# EAGLE library part DIAS* (library Zoli2_2015-01-28)
Pyroelectric sensor array
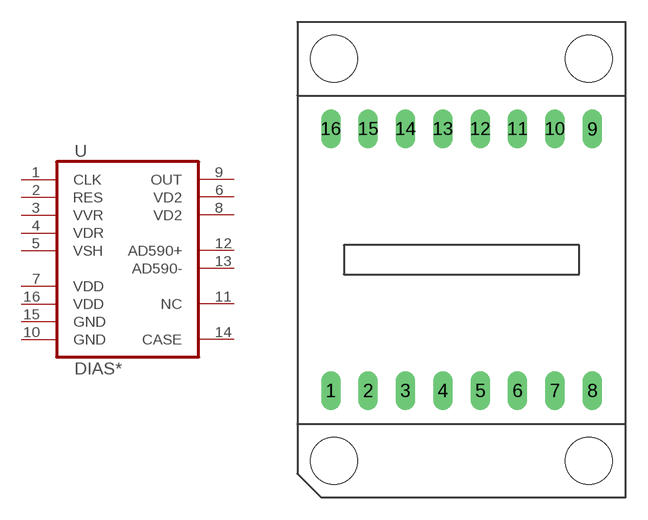
[diagram p21: symbol with the pads of DIAS; footprint DIAS]

Designator prefix U

## DIAS128LT, DIAS256LT  [DIAS]
1  CLK  in
2  RES  in
3  VVR  in
4  VDR  in
5  VSH  in
6  VD2  in
7  VDD  pwr
8  VD2  in
9  OUT  out
10  GND  pwr
11  NC  nc
12  AD590+  in
13  AD590-  in
14  CASE  pas
15  GND  pwr
16  VDD  pwr

## Footprint DIAS (pad centres in mm)
drill 0.813 long: 1 -8.89,-8.89; 2 -6.35,-8.89; 3 -3.81,-8.89; 4 -1.27,-8.89; 5 1.27,-8.89; 6 3.81,-8.89; 7 6.35,-8.89; 8 8.89,-8.89; 9 8.89,8.89; 10 6.35,8.89; 11 3.81,8.89; 12 1.27,8.89; 13 -1.27,8.89; 14 -3.81,8.89; 15 -6.35,8.89; 16 -8.89,8.89
hole 3.2 at -8.66,-13.66
hole 3.2 at -8.66,13.66
hole 3.2 at 8.66,13.66
hole 3.2 at 8.66,-13.66